# Altium schematic symbol library microcontrollers.SchLib: 1 symbol
Pins are listed as number, name and electrical type; pins without a type are passive.

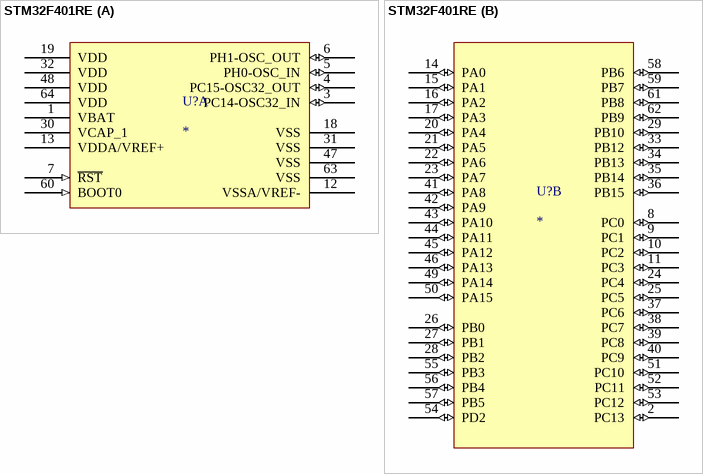
[diagram p0: symbol STM32F401RE]

## STM32F401RE
designator U?
footprint FP-LQFP64-5W-IPC_B (Utilizado por STM32F401RE.)
footprint FP-LQFP64-5W-IPC_A (Utilizado por STM32F401RE.)
footprint FP-LQFP64-5W-IPC_C (Utilizado por STM32F401RE.)
part A pins: 1 VBAT (power) "-", 3 PC14-OSC32_IN (io) "EVENTOUT", 4 PC15-OSC32_OUT (io) "EVENTOUT", 5 PH0-OSC_IN (io) "EVENTOUT", 6 PH1-OSC_OUT (io) "EVENTOUT", 7 ~{RST} (in) "EVENTOUT", 12 VSSA/VREF- (power) "-", 13 VDDA/VREF+ (power) "-", 18 VSS (power) "-", 19 VDD (power) "-", 30 VCAP_1 (power) "-", 31 VSS (power) "-", 32 VDD (power) "-", 47 VSS (power) "-", 48 VDD (power) "-", 60 BOOT0 (in) "-", 63 VSS (power) "-", 64 VDD (power) "-"
part B pins: 2 PC13 (io) "EVENTOUT,", 8 PC0 (io) "EVENTOUT", 9 PC1 (io) "EVENTOUT", 10 PC2 (io) ""SPI2_MISO, I2S2ext_SD, / EVENTOUT"", 11 PC3 (io) ""SPI2_MOSI/I2S2_SD, / EVENTOUT"", 14 PA0 (io) ""USART2_CTS, / TIM2_CH1/TIM2_ETR, / TIM5_CH1, EVENTOUT"", 15 PA1 (io) ""USART2_RTS, TIM2_CH2, / TIM5_CH2, EVENTOUT"", 16 PA2 (io) ""USART2_TX, TIM2_CH3, / TIM5_CH3, TIM9_CH1, / EVENTOUT"", 17 PA3 (io) ""USART2_RX, TIM2_CH4, / TIM5_CH4, TIM9_CH2, / EVENTOUT"", 20 PA4 (io) ""SPI1_NSS, / SPI3_NSS/I2S3_WS, / USART2_CK, EVENTOUT"", 21 PA5 (io) ""SPI1_SCK, / TIM2_CH1/TIM2_ETR, / EVENTOUT"", 22 PA6 (io) ""SPI1_MISO, TIM1_BKIN, / TIM3_CH1, EVENTOUT"", 23 PA7 (io) ""SPI1_MOSI, TIM1_CH1N, / TIM3_CH2, EVENTOUT"", 24 PC4 (io) "EVENTOUT", 25 PC5 (io) "EVENTOUT", 26 PB0 (io) ""TIM1_CH2N, TIM3_CH3, / EVENTOUT"", 27 PB1 (io) ""TIM1_CH3N, TIM3_CH4, / EVENTOUT"", 28 PB2 (io) "EVENTOUT", 29 PB10 (io) ""SPI2_SCK/I2S2_CK, / I2C2_SCL, TIM2_CH3, / EVENTOUT"", 33 PB12 (io) ""SPI2_NSS/I2S2_WS, / I2C2_SMBA, TIM1_BKIN, / EVENTOUT"", 34 PB13 (io) ""SPI2_SCK/I2S2_CK, / TIM1_CH1N, EVENTOUT"", 35 PB14 (io) ""SPI2_MISO, I2S2ext_SD, / TIM1_CH2N, EVENTOUT"", 36 PB15 (io) ""SPI2_MOSI/I2S2_SD, / TIM1_CH3N, EVENTOUT"", 37 PC6 (io) ""I2S2_MCK, USART6_TX, / TIM3_CH1, SDIO_D6, / EVENTOUT"", 38 PC7 (io) ""I2S3_MCK, USART6_RX, / TIM3_CH2, SDIO_D7, / EVENTOUT"", 39 PC8 (io) ""USART6_CK, TIM3_CH3, / SDIO_D0, EVENTOUT"", 40 PC9 (io) ""I2S_CKIN, I2C3_SDA, / TIM3_CH4, SDIO_D1, / MCO_2, EVENTOUT"", 41 PA8 (io) ""I2C3_SCL, USART1_CK, / TIM1_CH1, OTG_FS_SOF, / MCO_1, EVENTOUT"", 42 PA9 (io) ""I2C3_SMBA, USART1_TX, / TIM1_CH2, EVENTOUT"", 43 PA10 (io) ""USART1_RX, TIM1_CH3, / OTG_FS_ID, EVENTOUT"", 44 PA11 (io) ""USART1_CTS, USART6_TX, / TIM1_CH4, OTG_FS_DM, / EVENTOUT"", 45 PA12 (io) ""USART1_RTS, USART6_RX, / TIM1_ETR, OTG_FS_DP, / EVENTOUT"", 46 PA13 (io) "JTMS-SWDIO, EVENTOUT", 49 PA14 (io) "JTCK-SWCLK, EVENTOUT", 50 PA15 (io) ""JTDI, SPI1_NSS, / SPI3_NSS/I2S3_WS, / TIM2_CH1/TIM2_ETR, JTDI, / EVENTOUT"", 51 PC10 (io) ""SPI3_SCK/I2S3_CK, / SDIO_D2, EVENTOUT"", 52 PC11 (io) ""I2S3ext_SD, SPI3_MISO, / SDIO_D3, EVENTOUT"", 53 PC12 (io) ""SPI3_MOSI/I2S3_SD, / SDIO_CK, EVENTOUT"", 54 PD2 (io) ""TIM3_ETR, SDIO_CMD, / EVENTOUT"", 55 PB3 (io) ""JTDO-SWO, SPI1_SCK, / SPI3_SCK/I2S3_CK, / I2C2_SDA, TIM2_CH2, / EVENTOUT"", 56 PB4 (io) ""NJTRST, SPI1_MISO, / SPI3_MISO, I2S3ext_SD, / I2C3_SDA, TIM3_CH1, / EVENTOUT"", 57 PB5 (io) ""SPI1_MOSI, / SPI3_MOSI/I2S3_SD, / I2C1_SMBA, TIM3_CH2, / EVENTOUT"", 58 PB6 (io) ""I2C1_SCL, USART1_TX, / TIM4_CH1, EVENTOUT"", 59 PB7 (io) ""I2C1_SDA, USART1_RX, / TIM4_CH2, EVENTOUT"", 61 PB8 (io) ""I2C1_SCL, TIM4_CH3, / TIM10_CH1, SDIO_D4, / EVENTOUT"", 62 PB9 (io) ""SPI2_NSS/I2S2_WS, / I2C1_SDA, TIM4_CH4, / TIM11_CH1, SDIO_D5, / EVENTOUT""